# Altium schematic symbol library Con1.SchLib: 35 symbols
Pins are listed as number, name and electrical type; pins without a type are passive.

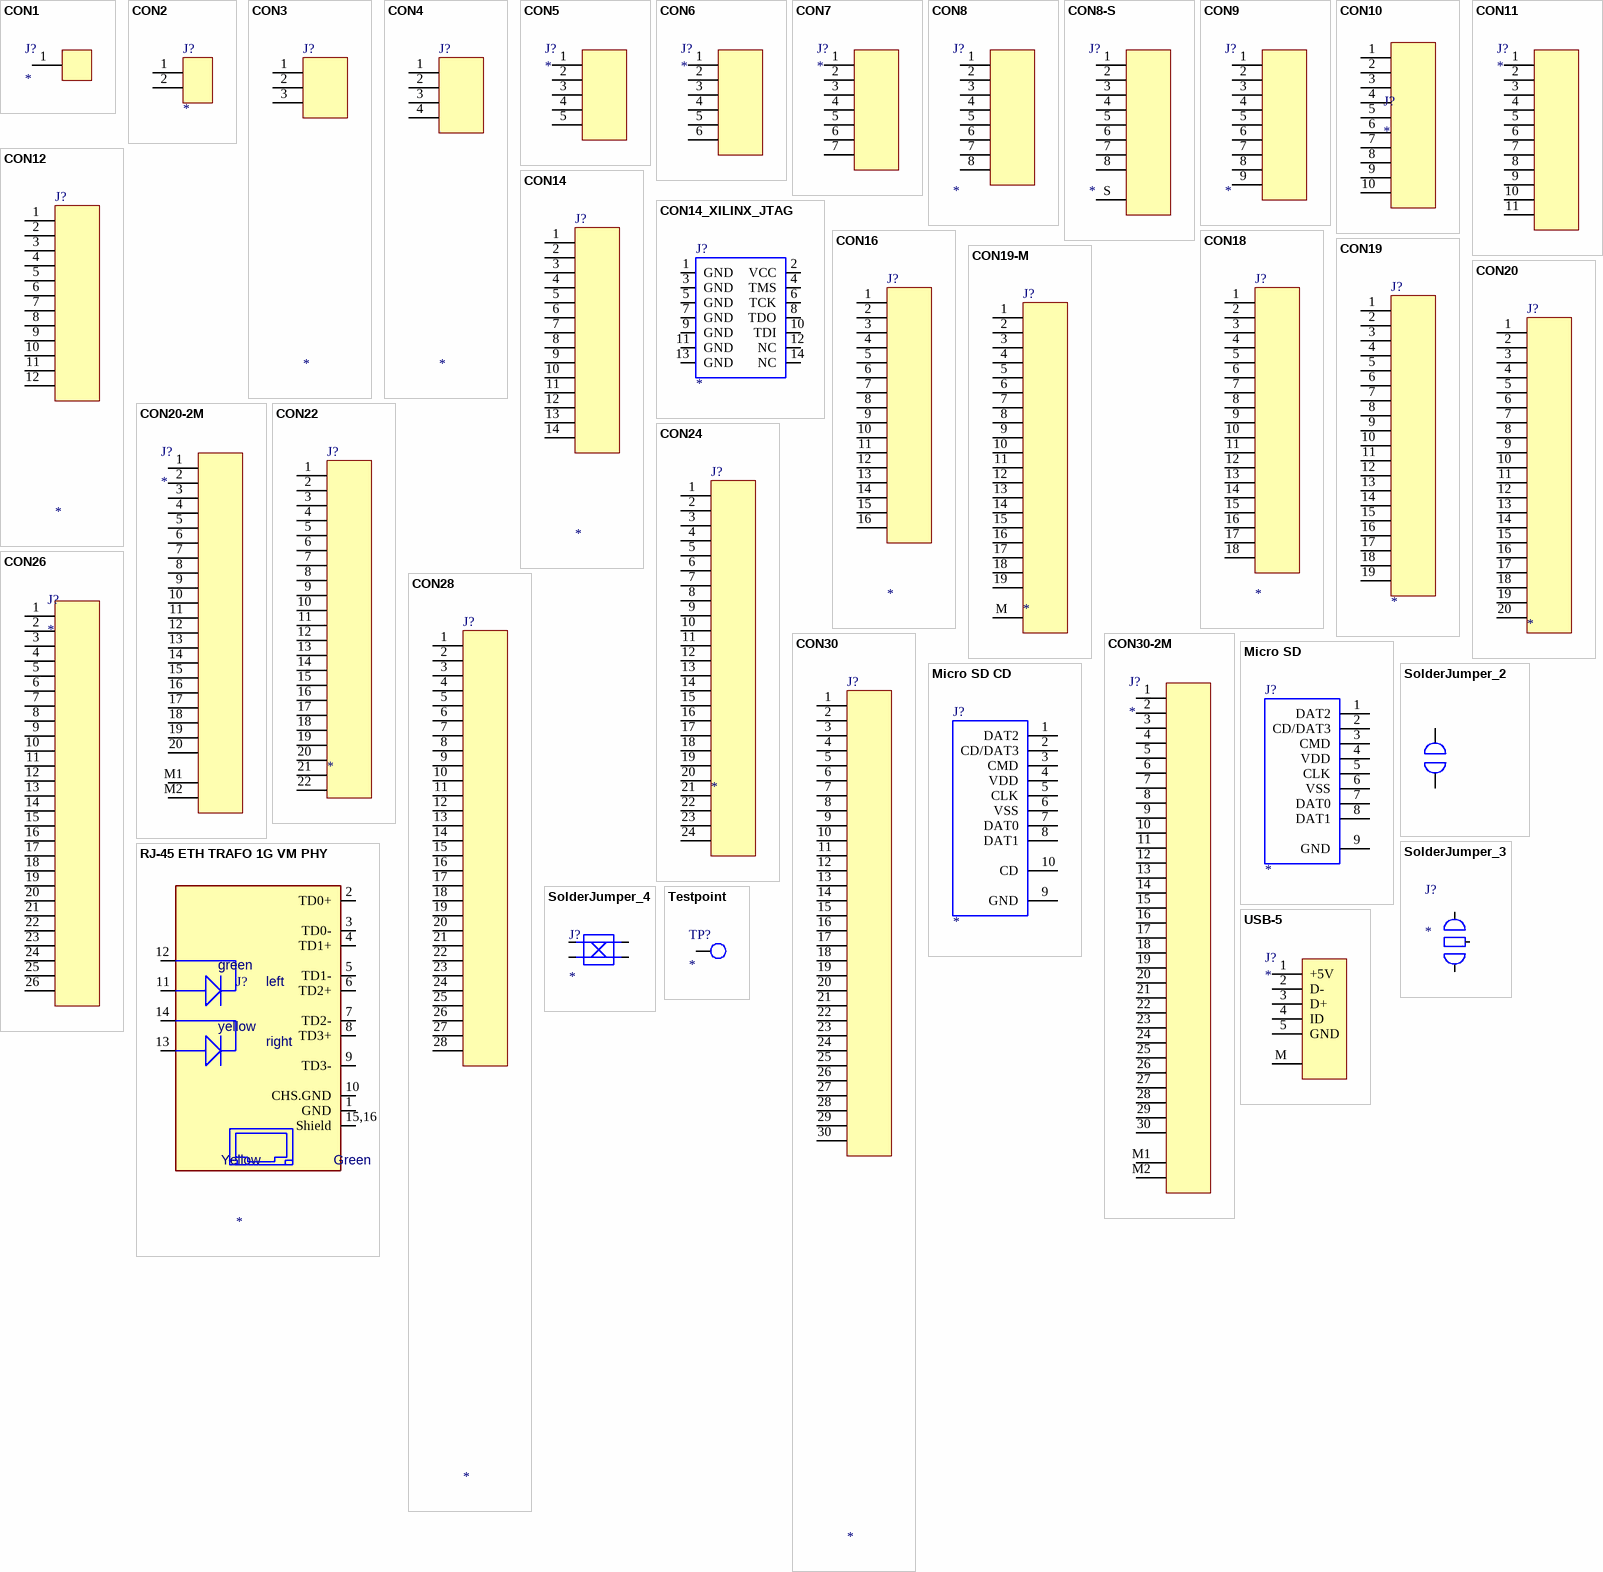
[diagram p0: symbols CON1 to USB-5]

## CON1
designator J?
pins: 1

## CON2
designator J?
pins: 1, 2

## CON3
designator J?
pins: 1, 2, 3

## CON4
designator J?
pins: 1, 2, 3, 4

## CON5
designator J?
pins: 1, 2, 3, 4, 5

## CON6
designator J?
pins: 1, 2, 3, 4, 5, 6

## CON7
designator J?
pins: 1, 2, 3, 4, 5, 6, 7

## CON8
designator J?
pins: 1, 2, 3, 4, 5, 6, 7, 8

## CON8-S
designator J?
pins: 1, 2, 3, 4, 5, 6, 7, 8, S Shield

## CON9
designator J?
pins: 1, 2, 3, 4, 5, 6, 7, 8, 9

## CON10
designator J?
pins: 1, 2, 3, 4, 5, 6, 7, 8, 9, 10

## CON11
designator J?
pins: 1, 2, 3, 4, 5, 6, 7, 8, 9, 10, 11

## CON12
designator J?
pins: 1, 2, 3, 4, 5, 6, 7, 8, 9, 10, 11, 12

## CON14
designator J?
pins: 1, 2, 3, 4, 5, 6, 7, 8, 9, 10, 11, 12, 13, 14

## CON14_XILINX_JTAG
designator J?
pins: 1 GND, 2 VCC, 3 GND, 4 TMS, 5 GND, 6 TCK, 7 GND, 8 TDO, 9 GND, 10 TDI, 11 GND, 12 NC, 13 GND, 14 NC

## CON16
designator J?
pins: 1, 2, 3, 4, 5, 6, 7, 8, 9, 10, 11, 12, 13, 14, 15, 16

## CON18
designator J?
pins: 1, 2, 3, 4, 5, 6, 7, 8, 9, 10, 11, 12, 13, 14, 15, 16, 17, 18

## CON19
designator J?
pins: 1, 2, 3, 4, 5, 6, 7, 8, 9, 10, 11, 12, 13, 14, 15, 16, 17, 18, 19

## CON19-M
designator J?
pins: 1, 2, 3, 4, 5, 6, 7, 8, 9, 10, 11, 12, 13, 14, 15, 16, 17, 18, 19, M

## CON20
designator J?
pins: 1, 2, 3, 4, 5, 6, 7, 8, 9, 10, 11, 12, 13, 14, 15, 16, 17, 18, 19, 20

## CON20-2M
designator J?
pins: 1, 2, 3, 4, 5, 6, 7, 8, 9, 10, 11, 12, 13, 14, 15, 16, 17, 18, 19, 20, M1, M2

## CON22
designator J?
pins: 1, 2, 3, 4, 5, 6, 7, 8, 9, 10, 11, 12, 13, 14, 15, 16, 17, 18, 19, 20, 21, 22

## CON24
designator J?
pins: 1, 2, 3, 4, 5, 6, 7, 8, 9, 10, 11, 12, 13, 14, 15, 16, 17, 18, 19, 20, 21, 22, 23, 24

## CON26
designator J?
pins: 1, 2, 3, 4, 5, 6, 7, 8, 9, 10, 11, 12, 13, 14, 15, 16, 17, 18, 19, 20, 21, 22, 23, 24, 25, 26

## CON28
designator J?
pins: 1, 2, 3, 4, 5, 6, 7, 8, 9, 10, 11, 12, 13, 14, 15, 16, 17, 18, 19, 20, 21, 22, 23, 24, 25, 26, 27, 28

## CON30
designator J?
pins: 1, 2, 3, 4, 5, 6, 7, 8, 9, 10, 11, 12, 13, 14, 15, 16, 17, 18, 19, 20, 21, 22, 23, 24, 25, 26, 27, 28, 29, 30

## CON30-2M
designator J?
pins: 1, 2, 3, 4, 5, 6, 7, 8, 9, 10, 11, 12, 13, 14, 15, 16, 17, 18, 19, 20, 21, 22, 23, 24, 25, 26, 27, 28, 29, 30, M1, M2

## Micro SD
designator J?
pins: 1 DAT2, 2 CD/DAT3, 3 CMD, 4 VDD, 5 CLK, 6 VSS, 7 DAT0, 8 DAT1, 9 GND

## Micro SD CD
designator J?
pins: 1 DAT2, 2 CD/DAT3, 3 CMD, 4 VDD, 5 CLK, 6 VSS, 7 DAT0, 8 DAT1, 9 GND, 10 CD

## RJ-45 ETH TRAFO 1G VM PHY
designator J?
Previous Identity: RJ45 Buchse, Gigabit Ethernet; Package Type: HALO/PBL HFJ11-1G41E-L12RL
pins: 1 GND, 2 TD0+, 3 TD0-, 4 TD1+, 5 TD1-, 6 TD2+, 7 TD2-, 8 TD3+, 9 TD3-, 10 CHS.GND, 11, 12, 13, 14, 15,16 Shield
text: green; left; yellow; right; Yellow; Green

## SolderJumper_2
designator J?
pins: 1, 2

## SolderJumper_3
designator J?
pins: 1, 2, 3

## SolderJumper_4
designator J?
pins: 1, 2, 3, 4

## Testpoint
designator TP?  (no BOM)
pins: 1

## USB-5
designator J?
pins: 1 +5V, 2 D-, 3 D+, 4 ID, 5 GND, M